# EAGLE library part 691401710020 (library Wurth_Elektronik_Electromechanic_Terminal_Blocks_Connectors_rev16b)
WR-TBL Terminal block - serie 401 5,0mm - Spring clamp/Screw less - horizontal entry Code:Con_TBL_Screwless_5.00_6914017100xxB Created 2014-12-22, aslant tao 2014 (C) Würth Elektronik
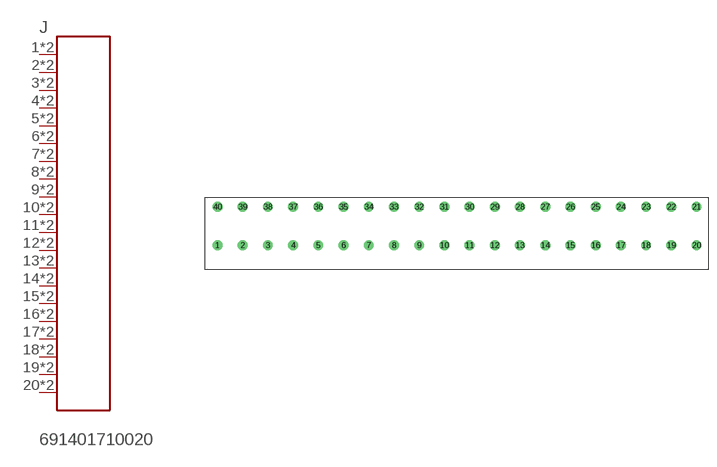
[diagram p226: symbol with the pads of 691401710020; footprint 691401710020]

Designator prefix J

## 691401710020  [691401710020]
1  1  pas
2  2  pas
3  3  pas
4  4  pas
5  5  pas
6  6  pas
7  7  pas
8  8  pas
9  9  pas
10  10  pas
11  11  pas
12  12  pas
13  13  pas
14  14  pas
15  15  pas
16  16  pas
17  17  pas
18  18  pas
19  19  pas
20  20  pas
21  20  pas
22  19  pas
23  18  pas
24  17  pas
25  16  pas
26  15  pas
27  14  pas
28  13  pas
29  12  pas
30  11  pas
31  10  pas
32  9  pas
33  8  pas
34  7  pas
35  6  pas
36  5  pas
37  4  pas
38  3  pas
39  2  pas
40  1  pas

## Footprint 691401710020 (pad centres in mm)
WR-TBL Serie 401 - 5.0mm Screwless Horizontal Entry - 2 mm2 Wires, 20 Pins
drill 1.3: 1 -50,0; 2 -45,0; 3 -40,0; 4 -35,0; 5 -30,0; 6 -25,0; 7 -20,0; 8 -15,0; 9 -10,0; 10 -5,0; 11 0,0; 12 5,0; 13 10,0; 14 15,0; 15 20,0; 16 25,0; 17 30,0; 18 35,0; 19 40,0; 20 45,0; 21 45,7.62; 22 40,7.62; 23 35,7.62; 24 30,7.62; 25 25,7.62; 26 20,7.62; 27 15,7.62; 28 10,7.62; 29 5,7.62; 30 0,7.62; 31 -5,7.62; 32 -10,7.62; 33 -15,7.62; 34 -20,7.62; 35 -25,7.62; 36 -30,7.62; 37 -35,7.62; 38 -40,7.62; 39 -45,7.62; 40 -50,7.62